# Altium footprint library 206124.PcbLib: 1 footprints
Each footprint in its own frame and in the unit in brackets; x right, y up, seen from the top. Pads: shape width x height; smd on the part's side, far side on the other; paste and mask are expansions set on the pad; w line width, h text height; cw(c..) or ccw(c..) is an arc to the next point about the centre after c.
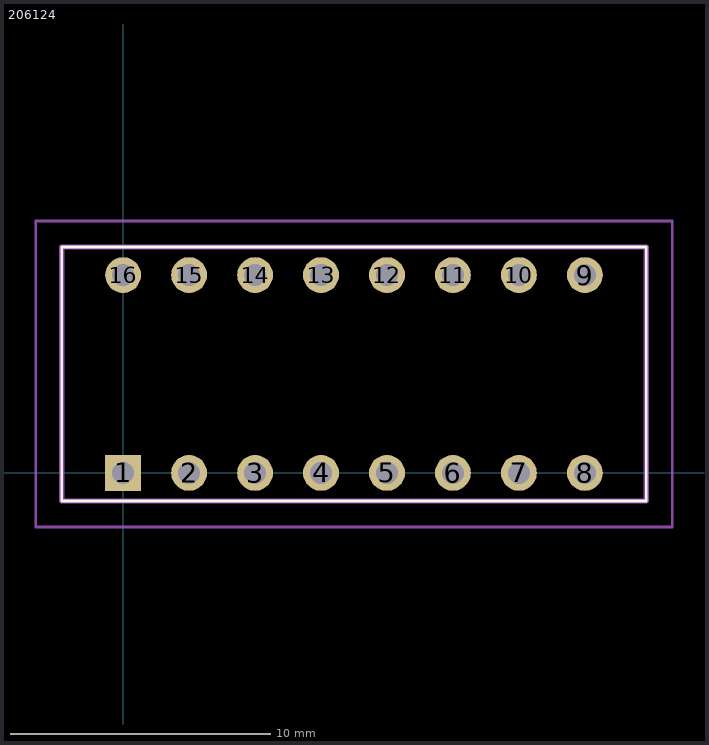
[diagram p0: the footprint, top view; thin cyan lines are the x and y axes]

## 206124 [mm]
pads (16):
  rect 1.381x1.381 hole 0.85: 1(0,0)
  round 1.381 hole 0.85: 2(2.54,0) 3(5.08,0) 4(7.62,0) 5(10.16,0) 6(12.7,0) 7(15.24,0) 8(17.78,0) 9(17.78,7.62) 10(15.24,7.62) 11(12.7,7.62) 12(10.16,7.62) 13(7.62,7.62) 14(5.08,7.62) 15(2.54,7.62) 16(0,7.62)
Top Overlay:
  lines w0.1: -2.36,-1.08 20.14,-1.08 20.14,8.7 -2.36,8.7 -2.36,-1.08
Mechanical 15:
  lines w0.2: -2.36,-1.08 20.14,-1.08 20.14,8.7 -2.36,8.7 -2.36,-1.08
Mechanical 20:
  lines w0.1: -3.36,-2.08 21.14,-2.08 21.14,9.7 -3.36,9.7 -3.36,-2.08